# Altium schematic symbol library 蜂鸣器.SchLib: 1 symbol
Pins are listed as number, name and electrical type; pins without a type are passive.

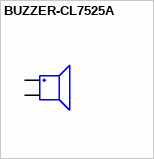
[diagram p0: symbol BUZZER-CL7525A]

## BUZZER-CL7525A
designator BUZZER?
无源贴片蜂鸣器 7.5*7.5*2.5MM 2~4V; 厂家: 江苏诚力电子有限公司; 金蝶料号: 010115030001; 工作温度: -20～+70; 插件/贴片: 贴片; 器件状态: 启用; 厂家型号: CL7525A; 值: CL7525A; ComponentLink1Description: New link; ComponentLink1URL: *
footprint BUZZER-7.5*7.5*2.5MM
pins: 1, 2